# EAGLE library part LT3475 (library v-reg)
LT3475 - Dual Step-Down 1.5A LED Driver True Color PWM Delivers Constant Color with 3000:1 Dimming Range Wide Input Range: 4V to 36V Operating, 40V Maximum Accurate and Adjustable Control of LED Current from 50mA to 1.5A High Side Current Sense Allows Grounded Cathode LED Operation Accurate and Adjustable 200kHz to 2MHz Switching Frequency Anti-Phase Switching Reduces Ripple Uses Small Inductors and Ceramic Capacitors Available in the Compact 20-Lead TSSOP Thermally Enhanced Surface Mount Package
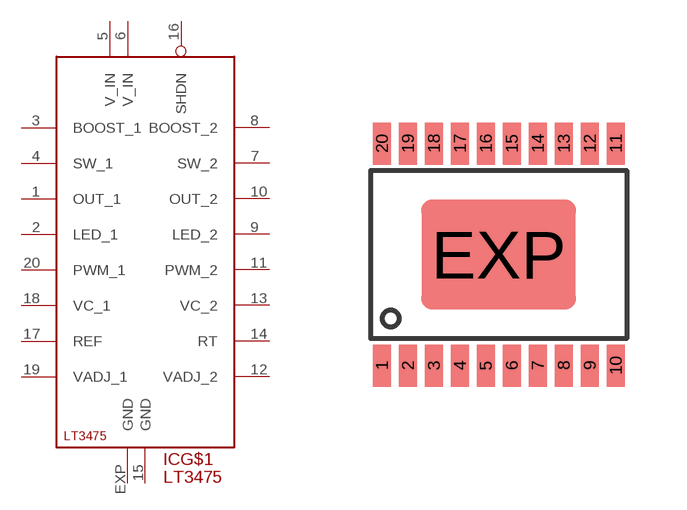
[diagram p9: symbol with the pads of TSSOP20_CB; footprint TSSOP20_CB]

Designator prefix IC; gates G$1=LT3475 G$2=LT3475_SUP

## LT3475  [TSSOP20_CB]
1  G$1:OUT_1  pas
2  G$1:LED_1  pas
3  G$1:BOOST_1  pas
4  G$1:SW_1  pas
5  G$1:V_IN  pas
6  G$1:V_IN  pas
7  G$1:SW_2  pas
8  G$1:BOOST_2  pas
9  G$1:LED_2  pas
10  G$1:OUT_2  pas
11  G$1:PWM_2  pas
12  G$1:VADJ_2  pas
13  G$1:VC_2  pas
14  G$1:RT  pas
15  G$1:GND  pwr
16  G$1:SHDN  pas
17  G$1:REF  pas
18  G$1:VC_1  pas
19  G$1:VADJ_1  pas
20  G$1:PWM_1  pas
EXP  G$2:GND  pwr

## Footprint TSSOP20_CB (pad centres in mm)
smd 0.45 x 1.05: 1 -2.925,-2.775; 2 -2.275,-2.775; 3 -1.625,-2.775; 4 -0.975,-2.775; 5 -0.325,-2.775; 6 0.325,-2.775; 7 0.975,-2.775; 8 1.625,-2.775; 9 2.275,-2.775; 10 2.925,-2.775; 11 2.925,2.775; 12 2.275,2.775; 13 1.625,2.775; 14 0.975,2.775; 15 0.325,2.775; 16 -0.325,2.775; 17 -0.975,2.775; 18 -1.625,2.775; 19 -2.275,2.775; 20 -2.925,2.775
smd 3.86 x 2.74: EXP 0,0